# Altium integrated library TIDA-00172_revE2.IntLib: 55 symbols (part 2 of 2)
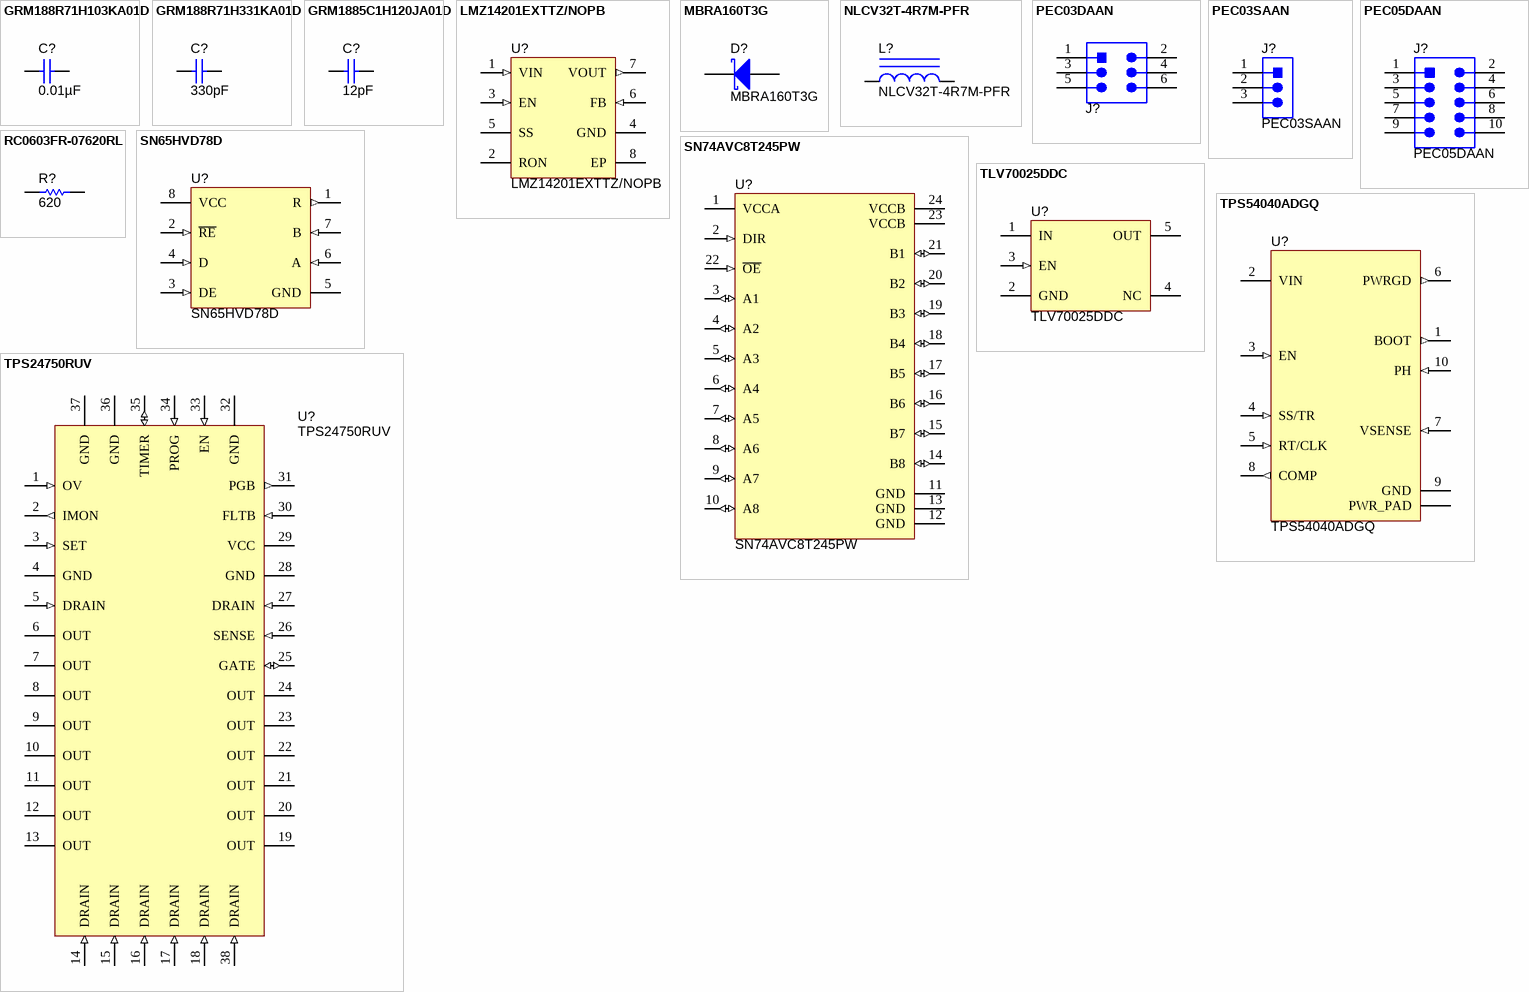
[diagram p2: symbols GRM188R71H103KA01D to TPS54040ADGQ]

## TPS54040ADGQ
designator U?
0.5 A, 42 V Step Down DC/DC Converter with Eco-mode, DGQ0010D; Alternate Manufacturer: None; Manufacturer: Texas Instruments; SymbolCreator: a0411947; CompType: IC; U/M: EA; SymbolVersion: 2008-02-13; PartNumber: TPS54040ADGQ; PackageReference: DGQ0010D; MountType: SMT; ComponentLink1Description: Datasheet Link; ComponentLink1URL: http://www.ti.com/lit/ds/symlink/tps54040a.pdf; RoHS: Y; Publisher: Texas Instruments; LatestRevisionDate: 2014-03-31
footprint DGQ0010D_N
footprint DGQ0010D_M
footprint DGQ0010D_L
pins: 1 BOOT (out), 2 VIN (power), 3 EN (in), 4 SS/TR (in), 5 RT/CLK (in), 6 PWRGD (out), 7 VSENSE (in), 8 COMP (out), 9 GND (power), 10 PH (in), 11 PWR_PAD (power)